# EAGLE library part ATSAMD51G (library dadamachines)
Microchip ATSAMD51Gxx ARM Cortex-M4 (48 pin) ...19 - 512kb Flash 192kb RAM
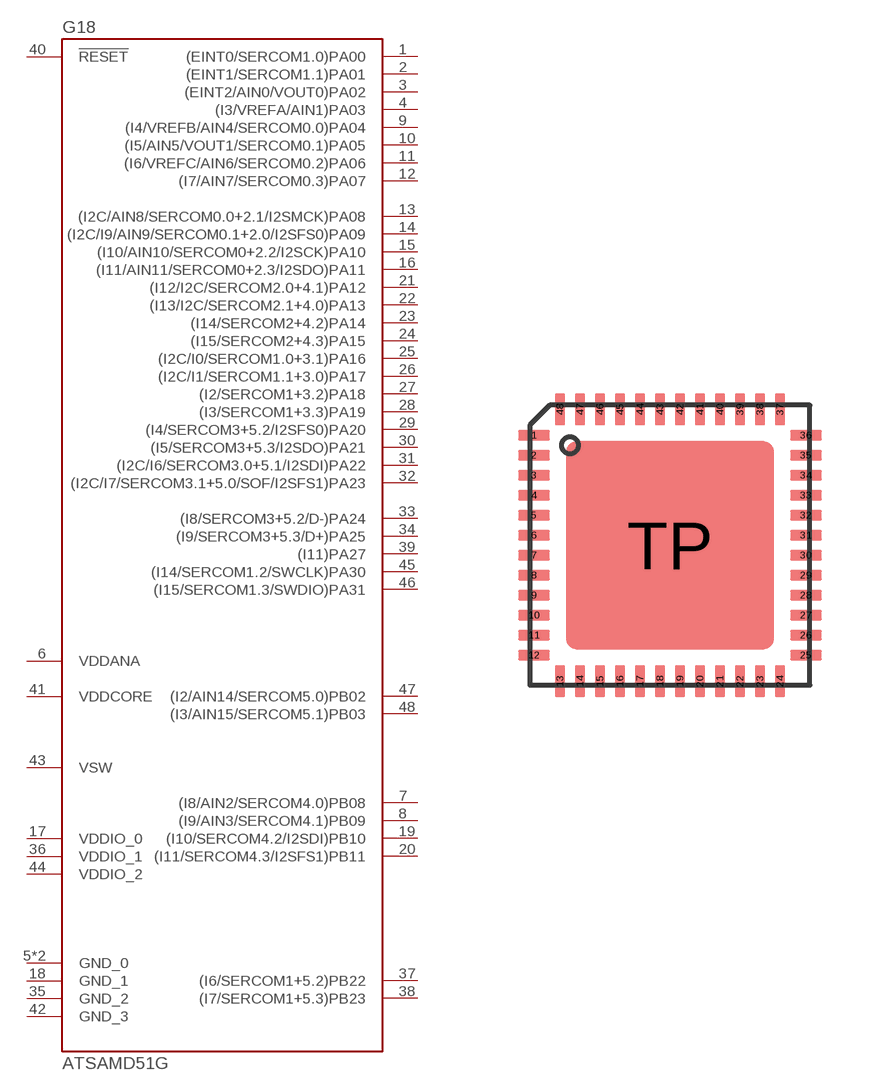
[diagram p12: symbol with the pads of QFN48-PAD; footprint QFN48-PAD]

Designator prefix G18

## ATSAMD51G  [QFN48-PAD]
1  (EINT0/SERCOM1.0)PA00
2  (EINT1/SERCOM1.1)PA01
3  (EINT2/AIN0/VOUT0)PA02
4  (I3/VREFA/AIN1)PA03
5  GND_0  pwr
6  VDDANA  pwr
7  (I8/AIN2/SERCOM4.0)PB08
8  (I9/AIN3/SERCOM4.1)PB09
9  (I4/VREFB/AIN4/SERCOM0.0)PA04
10  (I5/AIN5/VOUT1/SERCOM0.1)PA05
11  (I6/VREFC/AIN6/SERCOM0.2)PA06
12  (I7/AIN7/SERCOM0.3)PA07
13  (I2C/AIN8/SERCOM0.0+2.1/I2SMCK)PA08
14  (I2C/I9/AIN9/SERCOM0.1+2.0/I2SFS0)PA09
15  (I10/AIN10/SERCOM0+2.2/I2SCK)PA10
16  (I11/AIN11/SERCOM0+2.3/I2SDO)PA11
17  VDDIO_0  pwr
18  GND_1  pwr
19  (I10/SERCOM4.2/I2SDI)PB10
20  (I11/SERCOM4.3/I2SFS1)PB11
21  (I12/I2C/SERCOM2.0+4.1)PA12
22  (I13/I2C/SERCOM2.1+4.0)PA13
23  (I14/SERCOM2+4.2)PA14
24  (I15/SERCOM2+4.3)PA15
25  (I2C/I0/SERCOM1.0+3.1)PA16
26  (I2C/I1/SERCOM1.1+3.0)PA17
27  (I2/SERCOM1+3.2)PA18
28  (I3/SERCOM1+3.3)PA19
29  (I4/SERCOM3+5.2/I2SFS0)PA20
30  (I5/SERCOM3+5.3/I2SDO)PA21
31  (I2C/I6/SERCOM3.0+5.1/I2SDI)PA22
32  (I2C/I7/SERCOM3.1+5.0/SOF/I2SFS1)PA23
33  (I8/SERCOM3+5.2/D-)PA24
34  (I9/SERCOM3+5.3/D+)PA25
35  GND_2  pwr
36  VDDIO_1  pwr
37  (I6/SERCOM1+5.2)PB22
38  (I7/SERCOM1+5.3)PB23
39  (I11)PA27
40  !RESET  in
41  VDDCORE  pwr
42  GND_3  pwr
43  VSW  pwr
44  VDDIO_2  pwr
45  (I14/SERCOM1.2/SWCLK)PA30
46  (I15/SERCOM1.3/SWDIO)PA31
47  (I2/AIN14/SERCOM5.0)PB02
48  (I3/AIN15/SERCOM5.1)PB03
TP  GND_0  pwr

## Footprint QFN48-PAD (pad centres in mm)
smd 0.8 x 0.26: 1 -3.4,2.75; 2 -3.4,2.25; 3 -3.4,1.75; 4 -3.4,1.25; 5 -3.4,0.75; 6 -3.4,0.25; 7 -3.4,-0.25; 8 -3.4,-0.75; 9 -3.4,-1.25; 10 -3.4,-1.75; 11 -3.4,-2.25; 12 -3.4,-2.75; 25 3.4,-2.75; 26 3.4,-2.25; 27 3.4,-1.75; 28 3.4,-1.25; 29 3.4,-0.75; 30 3.4,-0.25; 31 3.4,0.25; 32 3.4,0.75; 33 3.4,1.25; 34 3.4,1.75; 35 3.4,2.25; 36 3.4,2.75
smd 0.26 x 0.8: 13 -2.75,-3.4; 14 -2.25,-3.4; 15 -1.75,-3.4; 16 -1.25,-3.4; 17 -0.75,-3.4; 18 -0.25,-3.4; 19 0.25,-3.4; 20 0.75,-3.4; 21 1.25,-3.4; 22 1.75,-3.4; 23 2.25,-3.4; 24 2.75,-3.4; 37 2.75,3.4; 38 2.25,3.4; 39 1.75,3.4; 40 1.25,3.4; 41 0.75,3.4; 42 0.25,3.4; 43 -0.25,3.4; 44 -0.75,3.4; 45 -1.25,3.4; 46 -1.75,3.4; 47 -2.25,3.4; 48 -2.75,3.4
smd 5.2 x 5.2: TP 0,0